# EAGLE library part STM32F405 (library OSURC_DigitalIC)
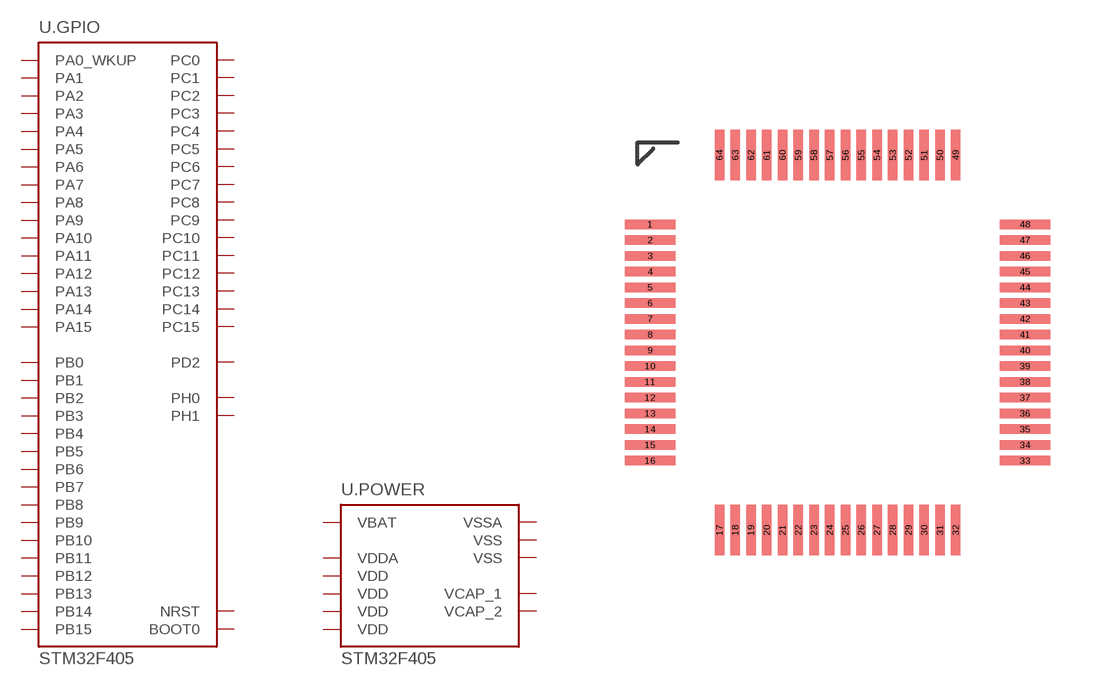
[diagram p0: symbol with the pads of LQFP-64-STM32F405; footprint LQFP-64-STM32F405]

Designator prefix U; gates .GPIO=STM32F405_GPIO .POWER=STM32F405_POWER

## STM32F405 (DIGIKEY_PN: 497-11767-ND)  [LQFP-64-STM32F405]
1  .POWER:VBAT  pwr
2  .GPIO:PC13
3  .GPIO:PC14
4  .GPIO:PC15
5  .GPIO:PH0
6  .GPIO:PH1
7  .GPIO:NRST
8  .GPIO:PC0
9  .GPIO:PC1
10  .GPIO:PC2
11  .GPIO:PC3
12  .POWER:VSSA  pwr
13  .POWER:VDDA  pwr
14  .GPIO:PA0_WKUP
15  .GPIO:PA1
16  .GPIO:PA2
17  .GPIO:PA3
18  .POWER:VSS  pwr
19  .POWER:VDD  pwr
20  .GPIO:PA4
21  .GPIO:PA5
22  .GPIO:PA6
23  .GPIO:PA7
24  .GPIO:PC4
25  .GPIO:PC5
26  .GPIO:PB0
27  .GPIO:PB1
28  .GPIO:PB2
29  .GPIO:PB10
30  .GPIO:PB11
31  .POWER:VCAP_1  pwr
32  .POWER:VDD  pwr
33  .GPIO:PB12
34  .GPIO:PB13
35  .GPIO:PB14
36  .GPIO:PB15
37  .GPIO:PC6
38  .GPIO:PC7
39  .GPIO:PC8
40  .GPIO:PC9
41  .GPIO:PA8
42  .GPIO:PA9
43  .GPIO:PA10
44  .GPIO:PA11
45  .GPIO:PA12
46  .GPIO:PA13
47  .POWER:VCAP_2  pwr
48  .POWER:VDD  pwr
49  .GPIO:PA14
50  .GPIO:PA15
51  .GPIO:PC10
52  .GPIO:PC11
53  .GPIO:PC12
54  .GPIO:PD2
55  .GPIO:PB3
56  .GPIO:PB4
57  .GPIO:PB5
58  .GPIO:PB6
59  .GPIO:PB7
60  .GPIO:BOOT0
61  .GPIO:PB8
62  .GPIO:PB9
63  .POWER:VSS  pwr
64  .POWER:VDD  pwr

## Footprint LQFP-64-STM32F405 (pad centres in mm)
smd 1.6 x 0.3: 1 0.4,10.1; 2 0.4,9.6; 3 0.4,9.1; 4 0.4,8.6; 5 0.4,8.1; 6 0.4,7.6; 7 0.4,7.1; 8 0.4,6.6; 9 0.4,6.1; 10 0.4,5.6; 11 0.4,5.1; 12 0.4,4.6; 13 0.4,4.1; 14 0.4,3.6; 15 0.4,3.1; 16 0.4,2.6; 33 12.3,2.6; 34 12.3,3.1; 35 12.3,3.6; 36 12.3,4.1; 37 12.3,4.6; 38 12.3,5.1; 39 12.3,5.6; 40 12.3,6.1; 41 12.3,6.6; 42 12.3,7.1; 43 12.3,7.6; 44 12.3,8.1; 45 12.3,8.6; 46 12.3,9.1; 47 12.3,9.6; 48 12.3,10.1
smd 0.3 x 1.6: 17 2.6,0.4; 18 3.1,0.4; 19 3.6,0.4; 20 4.1,0.4; 21 4.6,0.4; 22 5.1,0.4; 23 5.6,0.4; 24 6.1,0.4; 25 6.6,0.4; 26 7.1,0.4; 27 7.6,0.4; 28 8.1,0.4; 29 8.6,0.4; 30 9.1,0.4; 31 9.6,0.4; 32 10.1,0.4; 49 10.1,12.3; 50 9.6,12.3; 51 9.1,12.3; 52 8.6,12.3; 53 8.1,12.3; 54 7.6,12.3; 55 7.1,12.3; 56 6.6,12.3; 57 6.1,12.3; 58 5.6,12.3; 59 5.1,12.3; 60 4.6,12.3; 61 4.1,12.3; 62 3.6,12.3; 63 3.1,12.3; 64 2.6,12.3